# EAGLE library part ATSAM3U4E (library Sparky)
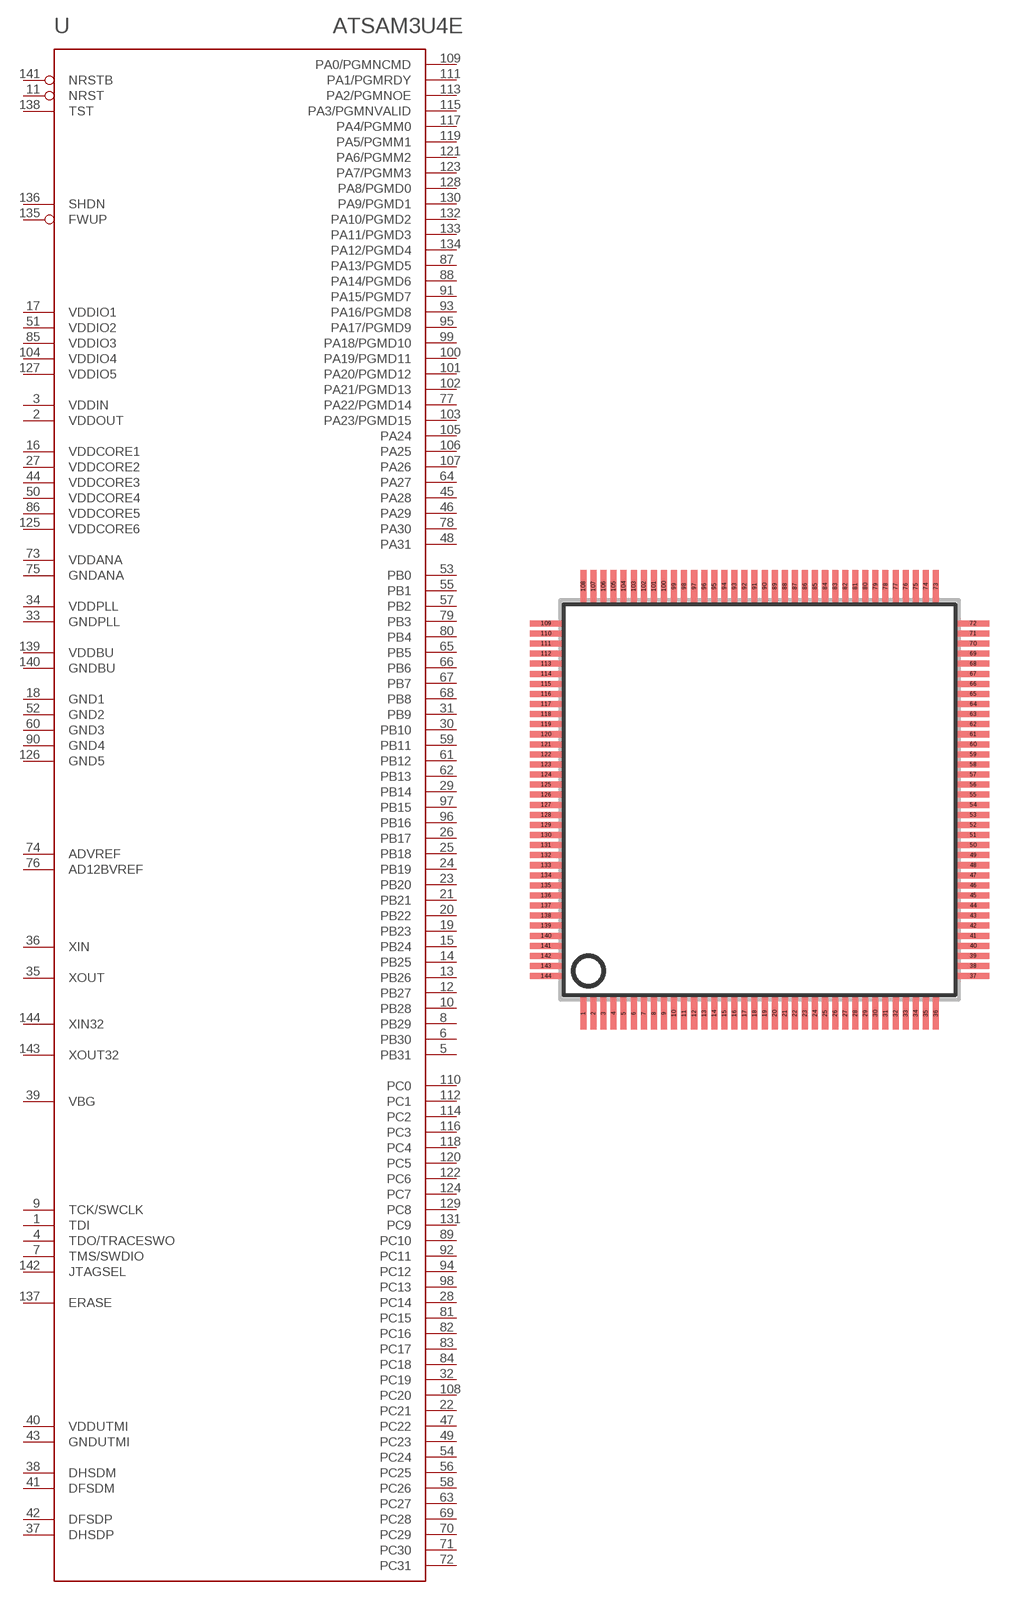
[diagram p5: symbol with the pads of SQFP-S-20X20-144; footprint SQFP-S-20X20-144]

Designator prefix -

## ATSAM3U4ELQFP-144  [SQFP-S-20X20-144]
1  TDI
2  VDDOUT
3  VDDIN
4  TDO/TRACESWO
5  PB31
6  PB30
7  TMS/SWDIO
8  PB29
9  TCK/SWCLK
10  PB28
11  NRST
12  PB27
13  PB26
14  PB25
15  PB24
16  VDDCORE1
17  VDDIO1
18  GND1
19  PB23
20  PB22
21  PB21
22  PC21
23  PB20
24  PB19
25  PB18
26  PB17
27  VDDCORE2
28  PC14
29  PB14
30  PB10
31  PB9
32  PC19
33  GNDPLL
34  VDDPLL
35  XOUT
36  XIN
37  DHSDP
38  DHSDM
39  VBG
40  VDDUTMI
41  DFSDM
42  DFSDP
43  GNDUTMI
44  VDDCORE3
45  PA28
46  PA29
47  PC22
48  PA31
49  PC23
50  VDDCORE4
51  VDDIO2
52  GND2
53  PB0
54  PC24
55  PB1
56  PC25
57  PB2
58  PC26
59  PB11
60  GND3
61  PB12
62  PB13
63  PC27
64  PA27
65  PB5
66  PB6
67  PB7
68  PB8
69  PC28
70  PC29
71  PC30
72  PC31
73  VDDANA
74  ADVREF
75  GNDANA
76  AD12BVREF
77  PA22/PGMD14
78  PA30
79  PB3
80  PB4
81  PC15
82  PC16
83  PC17
84  PC18
85  VDDIO3
86  VDDCORE5
87  PA13/PGMD5
88  PA14/PGMD6
89  PC10
90  GND4
91  PA15/PGMD7
92  PC11
93  PA16/PGMD8
94  PC12
95  PA17/PGMD9
96  PB16
97  PB15
98  PC13
99  PA18/PGMD10
100  PA19/PGMD11
101  PA20/PGMD12
102  PA21/PGMD13
103  PA23/PGMD15
104  VDDIO4
105  PA24
106  PA25
107  PA26
108  PC20
109  PA0/PGMNCMD
110  PC0
111  PA1/PGMRDY
112  PC1
113  PA2/PGMNOE
114  PC2
115  PA3/PGMNVALID
116  PC3
117  PA4/PGMM0
118  PC4
119  PA5/PGMM1
120  PC5
121  PA6/PGMM2
122  PC6
123  PA7/PGMM3
124  PC7
125  VDDCORE6
126  GND5
127  VDDIO5
128  PA8/PGMD0
129  PC8
130  PA9/PGMD1
131  PC9
132  PA10/PGMD2
133  PA11/PGMD3
134  PA12/PGMD4
135  FWUP
136  SHDN
137  ERASE
138  TST
139  VDDBU
140  GNDBU
141  NRSTB
142  JTAGSEL
143  XOUT32
144  XIN32

## Footprint SQFP-S-20X20-144 (pad centres in mm)
QFP144 shrink quad flat pack, square
smd 0.3 x 1.6: 1 -8.75,-10.6; 2 -8.25,-10.6; 3 -7.75,-10.6; 4 -7.25,-10.6; 5 -6.75,-10.6; 6 -6.25,-10.6; 7 -5.75,-10.6; 8 -5.25,-10.6; 9 -4.75,-10.6; 10 -4.25,-10.6; 11 -3.75,-10.6; 12 -3.25,-10.6; 13 -2.75,-10.6; 14 -2.25,-10.6; 15 -1.75,-10.6; 16 -1.25,-10.6; 17 -0.75,-10.6; 18 -0.25,-10.6; 19 0.25,-10.6; 20 0.75,-10.6; 21 1.25,-10.6; 22 1.75,-10.6; 23 2.25,-10.6; 24 2.75,-10.6; 25 3.25,-10.6; 26 3.75,-10.6; 27 4.25,-10.6; 28 4.75,-10.6; 29 5.25,-10.6; 30 5.75,-10.6; 31 6.25,-10.6; 32 6.75,-10.6; 33 7.25,-10.6; 34 7.75,-10.6; 35 8.25,-10.6; 36 8.75,-10.6; 73 8.75,10.6; 74 8.25,10.6; 75 7.75,10.6; 76 7.25,10.6; 77 6.75,10.6; 78 6.25,10.6; 79 5.75,10.6; 80 5.25,10.6; 81 4.75,10.6; 82 4.25,10.6; 83 3.75,10.6; 84 3.25,10.6; 85 2.75,10.6; 86 2.25,10.6; 87 1.75,10.6; 88 1.25,10.6; 89 0.75,10.6; 90 0.25,10.6; 91 -0.25,10.6; 92 -0.75,10.6; 93 -1.25,10.6; 94 -1.75,10.6; 95 -2.25,10.6; 96 -2.75,10.6; 97 -3.25,10.6; 98 -3.75,10.6; 99 -4.25,10.6; 100 -4.75,10.6; 101 -5.25,10.6; 102 -5.75,10.6; 103 -6.25,10.6; 104 -6.75,10.6; 105 -7.25,10.6; 106 -7.75,10.6; 107 -8.25,10.6; 108 -8.75,10.6
smd 1.6 x 0.3: 37 10.6,-8.75; 38 10.6,-8.25; 39 10.6,-7.75; 40 10.6,-7.25; 41 10.6,-6.75; 42 10.6,-6.25; 43 10.6,-5.75; 44 10.6,-5.25; 45 10.6,-4.75; 46 10.6,-4.25; 47 10.6,-3.75; 48 10.6,-3.25; 49 10.6,-2.75; 50 10.6,-2.25; 51 10.6,-1.75; 52 10.6,-1.25; 53 10.6,-0.75; 54 10.6,-0.25; 55 10.6,0.25; 56 10.6,0.75; 57 10.6,1.25; 58 10.6,1.75; 59 10.6,2.25; 60 10.6,2.75; 61 10.6,3.25; 62 10.6,3.75; 63 10.6,4.25; 64 10.6,4.75; 65 10.6,5.25; 66 10.6,5.75; 67 10.6,6.25; 68 10.6,6.75; 69 10.6,7.25; 70 10.6,7.75; 71 10.6,8.25; 72 10.6,8.75; 109 -10.6,8.75; 110 -10.6,8.25; 111 -10.6,7.75; 112 -10.6,7.25; 113 -10.6,6.75; 114 -10.6,6.25; 115 -10.6,5.75; 116 -10.6,5.25; 117 -10.6,4.75; 118 -10.6,4.25; 119 -10.6,3.75; 120 -10.6,3.25; 121 -10.6,2.75; 122 -10.6,2.25; 123 -10.6,1.75; 124 -10.6,1.25; 125 -10.6,0.75; 126 -10.6,0.25; 127 -10.6,-0.25; 128 -10.6,-0.75; 129 -10.6,-1.25; 130 -10.6,-1.75; 131 -10.6,-2.25; 132 -10.6,-2.75; 133 -10.6,-3.25; 134 -10.6,-3.75; 135 -10.6,-4.25; 136 -10.6,-4.75; 137 -10.6,-5.25; 138 -10.6,-5.75; 139 -10.6,-6.25; 140 -10.6,-6.75; 141 -10.6,-7.25; 142 -10.6,-7.75; 143 -10.6,-8.25; 144 -10.6,-8.75